# EAGLE library part RFM69 (library SWP)
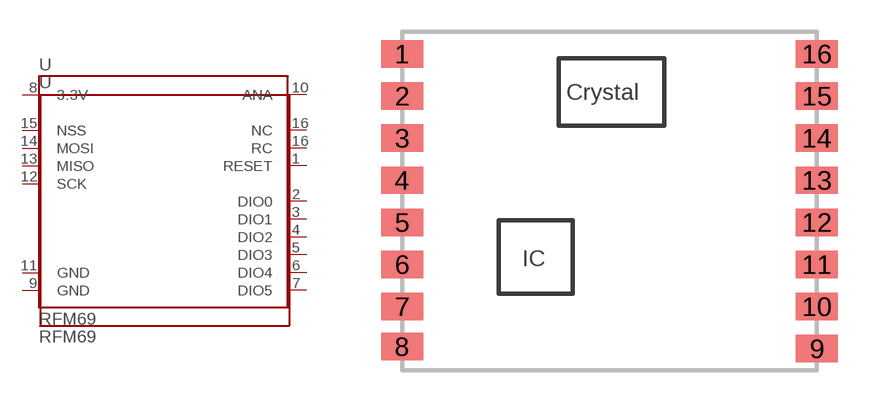
[diagram p2: symbol with the pads of RFM69SMD; footprint RFM69SMD]

Designator prefix -

## RFM69  [RFM69SMD]
1  RESET  in
2  DIO0
3  DIO1
4  DIO2
5  DIO3
6  DIO4
7  DIO5
8  3.3V  in
9  GND  pwr
10  ANA
11  GND  pwr
12  SCK  in
13  MISO  out
14  MOSI  in
15  NSS  in
16  NC  pwr
16  RC  pwr

## Footprint RFM69SMD (pad centres in mm)
smd 2 x 1.3: 1 -10.1,6.6; 2 -10.1,4.6; 3 -10.1,2.6; 4 -10.1,0.6; 5 -10.1,-1.4; 6 -10.1,-3.4; 7 -10.1,-5.4; 8 -10.1,-7.3; 9 9.6,-7.4; 10 9.6,-5.4; 11 9.6,-3.4; 12 9.6,-1.4; 13 9.6,0.6; 14 9.6,2.6; 15 9.6,4.6; 16 9.6,6.6